# EAGLE library part 2X20_127 (library KW2)
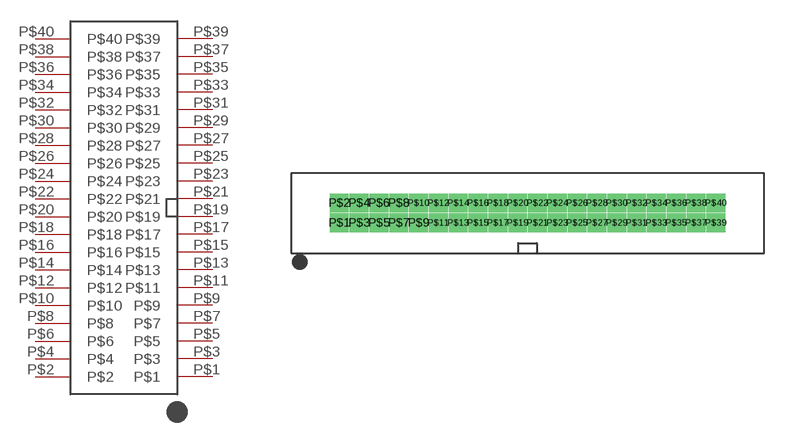
[diagram p11: symbol with the pads of 2X20_127; footprint 2X20_127]

Designator prefix -

## 2X20_127 (MFGN: CNC Tech; MFGP: 3220-40-0200-00)  [2X20_127]
P$1  P$1
P$2  P$2
P$3  P$3
P$4  P$4
P$5  P$5
P$6  P$6
P$7  P$7
P$8  P$8
P$9  P$9
P$10  P$10
P$11  P$11
P$12  P$12
P$13  P$13
P$14  P$14
P$15  P$15
P$16  P$16
P$17  P$17
P$18  P$18
P$19  P$19
P$20  P$20
P$21  P$21
P$22  P$22
P$23  P$23
P$24  P$24
P$25  P$25
P$26  P$26
P$27  P$27
P$28  P$28
P$29  P$29
P$30  P$30
P$31  P$31
P$32  P$32
P$33  P$33
P$34  P$34
P$35  P$35
P$36  P$36
P$37  P$37
P$38  P$38
P$39  P$39
P$40  P$40

## Footprint 2X20_127 (pad centres in mm)
drill 0.7 pad 1 square: P$1 0,0; P$2 0,1.27; P$3 1.27,0; P$4 1.27,1.27; P$5 2.54,0; P$6 2.54,1.27; P$7 3.81,0; P$8 3.81,1.27; P$9 5.08,0; P$10 5.08,1.27; P$11 6.35,0; P$12 6.35,1.27; P$13 7.62,0; P$14 7.62,1.27; P$15 8.89,0; P$16 8.89,1.27; P$17 10.16,0; P$18 10.16,1.27; P$19 11.43,0; P$20 11.43,1.27; P$21 12.7,0; P$22 12.7,1.27; P$23 13.97,0; P$24 13.97,1.27; P$25 15.24,0; P$26 15.24,1.27; P$27 16.51,0; P$28 16.51,1.27; P$29 17.78,0; P$30 17.78,1.27; P$31 19.05,0; P$32 19.05,1.27; P$33 20.32,0; P$34 20.32,1.27; P$35 21.59,0; P$36 21.59,1.27; P$37 22.86,0; P$38 22.86,1.27; P$39 24.13,0; P$40 24.13,1.27